# EAGLE library part TPS3895ADRYR (library ecad)
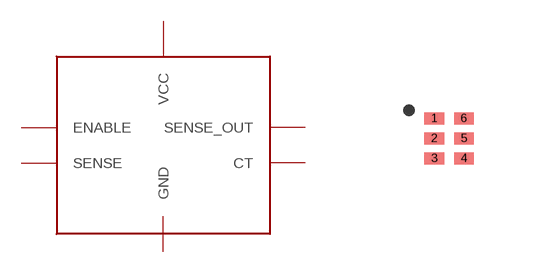
[diagram p0: symbol with the pads of 6_PIN_DRY; footprint 6_PIN_DRY]

Designator prefix U

## TPS3895ADRYR  [6_PIN_DRY]
1  ENABLE  pas
2  GND  pas
3  SENSE  pas
4  SENSE_OUT  pas
5  CT  pas
6  VCC  pas

## Footprint 6_PIN_DRY (pad centres in mm)
smd 0.49 x 0.3: 1 -0.37,0.5; 2 -0.37,0; 3 -0.37,-0.5; 4 0.37,-0.5; 5 0.37,0; 6 0.37,0.5